# EAGLE library part DERFSAM3-23T02-2 (library deRFmodules)
deRFsam3 IEEE 802.15.4 Low Power Wireless Radio Module Microcontroller: Atmel AT91SAM3S Transceiver: Atmel AT86RF232 Manufacturer: dresden elektronik ingenieurtechnik gmbh Website: http://www.dresden-elektronik.de
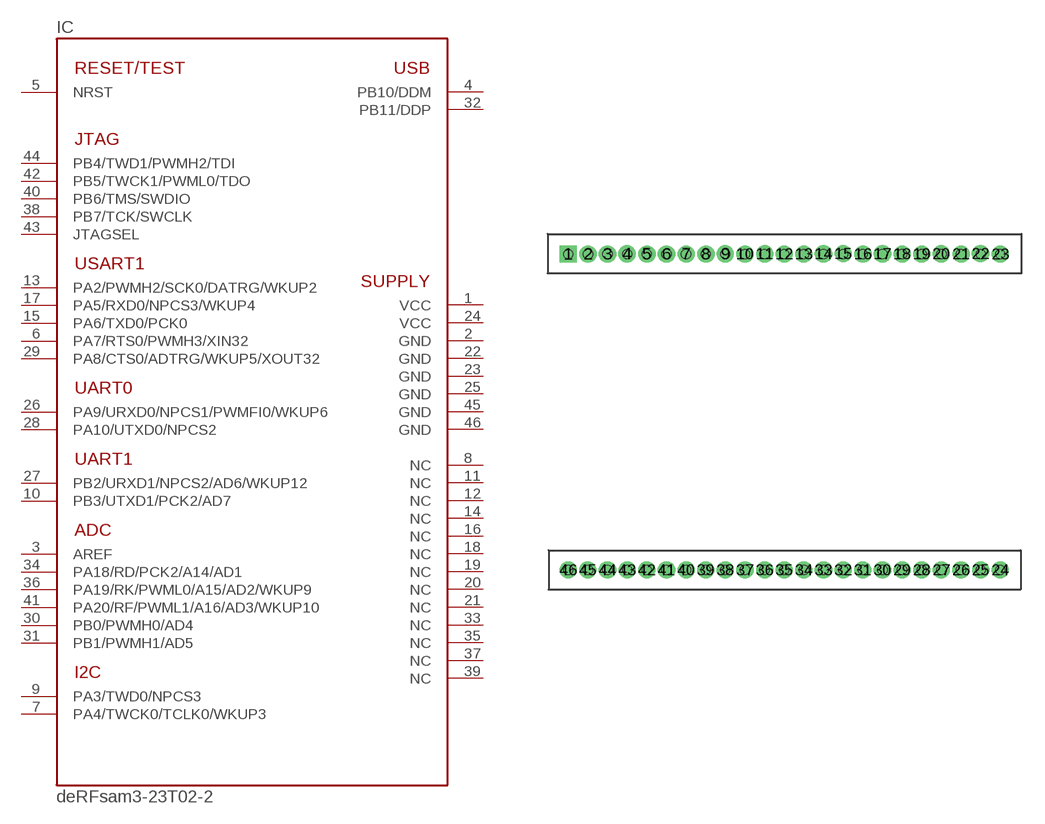
[diagram p18: symbol with the pads of A; footprint A]

Designator prefix IC

## DERFSAM3-23T02-2  [A]
1  VCC  sup
2  GND  sup
3  AREF
4  PB10/DDM
5  NRST
6  PA7/RTS0/PWMH3/XIN32
7  PA4/TWCK0/TCLK0/WKUP3
8  NC  nc
9  PA3/TWD0/NPCS3
10  PB3/UTXD1/PCK2/AD7
11  NC  nc
12  NC  nc
13  PA2/PWMH2/SCK0/DATRG/WKUP2
14  NC  nc
15  PA6/TXD0/PCK0
16  NC  nc
17  PA5/RXD0/NPCS3/WKUP4
18  NC  nc
19  NC  nc
20  NC  nc
21  NC  nc
22  GND  sup
23  GND  sup
24  VCC  sup
25  GND  sup
26  PA9/URXD0/NPCS1/PWMFI0/WKUP6
27  PB2/URXD1/NPCS2/AD6/WKUP12
28  PA10/UTXD0/NPCS2
29  PA8/CTS0/ADTRG/WKUP5/XOUT32
30  PB0/PWMH0/AD4
31  PB1/PWMH1/AD5
32  PB11/DDP
33  NC  nc
34  PA18/RD/PCK2/A14/AD1
35  NC  nc
36  PA19/RK/PWML0/A15/AD2/WKUP9
37  NC  nc
38  PB7/TCK/SWCLK
39  NC  nc
40  PB6/TMS/SWDIO
41  PA20/RF/PWML1/A16/AD3/WKUP10
42  PB5/TWCK1/PWML0/TDO
43  JTAGSEL  in
44  PB4/TWD1/PWMH2/TDI
45  GND  sup
46  GND  sup

## Footprint A (pad centres in mm)
46pin THT package, pitch 1.27mm
drill 0.6 square: 1 -0.01,20.44
drill 0.6 pad 1.016: 2 1.28,20.45; 4 3.8,20.46
drill 0.599 pad 1.016: 3 2.54,20.45; 5 5.09,20.45; 6 6.35,20.45; 7 7.63,20.45; 8 8.91,20.45; 9 10.16,20.46; 10 11.43,20.45; 11 12.71,20.46; 12 13.97,20.45; 13 15.24,20.45; 14 16.51,20.46; 15 17.79,20.47; 16 19.06,20.45; 17 20.32,20.46; 18 21.6,20.45; 19 22.87,20.45; 20 24.12,20.46; 21 25.41,20.45; 22 26.66,20.47; 23 27.95,20.44; 24 27.94,0; 25 26.67,0; 26 25.4,0; 27 24.13,0; 28 22.86,0; 29 21.59,0; 30 20.32,0; 31 19.05,0; 32 17.78,0; 33 16.51,0; 34 15.24,0; 35 13.97,0; 36 12.7,0; 37 11.43,0; 38 10.16,0; 39 8.89,0; 40 7.62,0; 41 6.35,0; 42 5.08,0; 43 3.81,0; 44 2.54,0; 45 1.27,0; 46 0,0
hole 0.6 at 0,0
hole 0.6 at 1.27,0
hole 0.6 at 2.54,0
hole 0.6 at 2.54,0
hole 0.6 at 1.27,0
hole 0.6 at 3.81,0
hole 0.6 at 5.08,0
hole 0.6 at 6.35,0
hole 0.6 at 7.62,0
hole 0.6 at 6.35,0
hole 0.6 at 8.89,0
hole 0.6 at 10.16,0
hole 0.6 at 11.43,0
hole 0.6 at 12.7,0
hole 0.6 at 13.97,0
hole 0.6 at 15.24,0
hole 0.6 at 16.51,0
hole 0.6 at 17.78,0
hole 0.6 at 19.05,0
hole 0.6 at 20.32,0
hole 0.6 at 21.59,0
hole 0.6 at 22.86,0
hole 0.6 at 24.13,0
hole 0.6 at 25.4,0
hole 0.6 at 26.67,0
hole 0.6 at 27.94,0
hole 0.6 at 0,20.45
hole 0.6 at 1.27,20.45
hole 0.6 at 2.54,20.45
hole 0.6 at 3.81,20.45
hole 0.6 at 5.08,20.45
hole 0.6 at 6.35,20.45
hole 0.6 at 7.62,20.45
hole 0.6 at 8.89,20.45
hole 0.6 at 10.16,20.45
hole 0.6 at 11.43,20.45
hole 0.6 at 12.7,20.45
hole 0.6 at 13.97,20.45
hole 0.6 at 15.24,20.45
hole 0.6 at 16.51,20.45
hole 0.6 at 17.78,20.45
hole 0.6 at 19.05,20.45
hole 0.6 at 20.32,20.45
hole 0.6 at 21.59,20.45
hole 0.6 at 22.86,20.45
hole 0.6 at 24.13,20.45
hole 0.6 at 25.4,20.45
hole 0.6 at 26.67,20.45
hole 0.6 at 27.94,20.45